# Altium footprint library PcbLib_Arduino_nano.PcbLib: 19 footprints (part 1 of 2)
Each footprint in its own frame and in the unit in brackets; x right, y up, seen from the top. Pads: shape width x height; smd on the part's side, far side on the other; paste and mask are expansions set on the pad; w line width, h text height; cw(c..) or ccw(c..) is an arc to the next point about the centre after c.
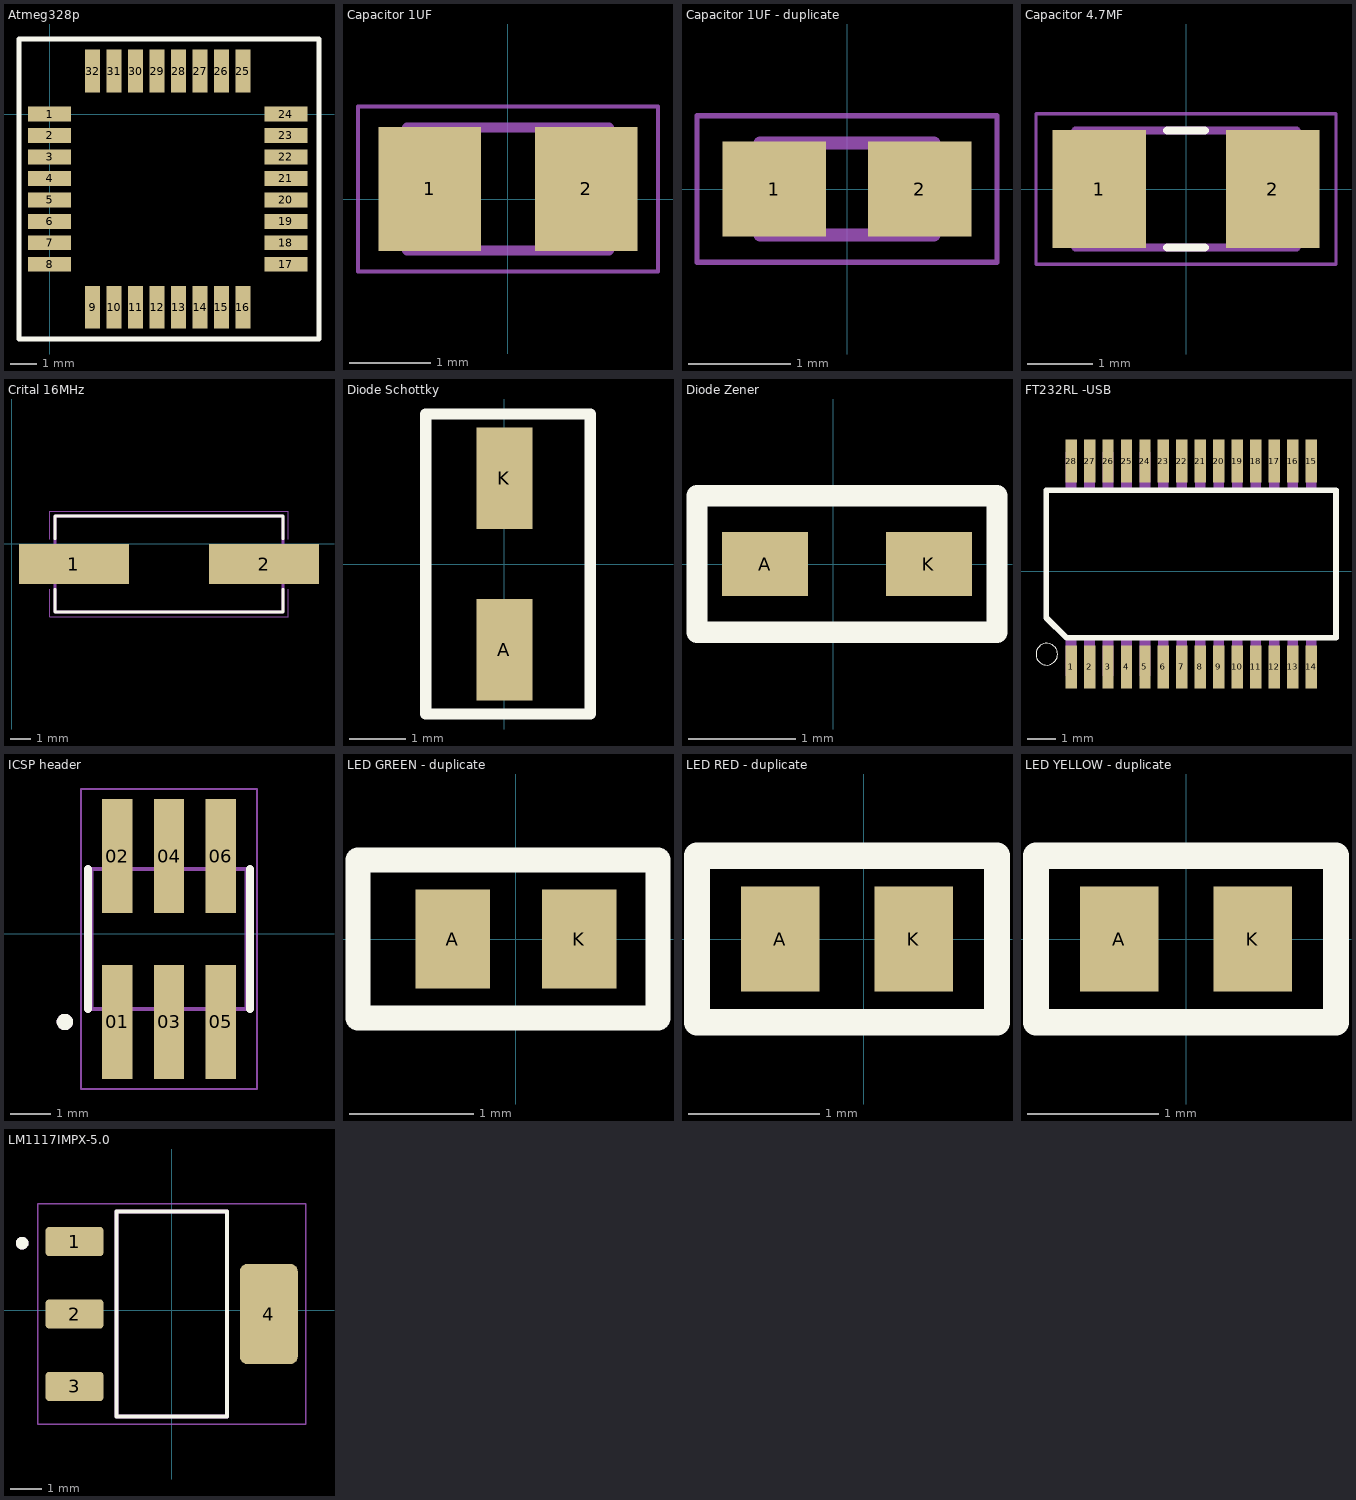
[diagram p0: the footprints below, top view; thin cyan lines are the x and y axes]

## Atmeg328p [mm]
pads (32):
  rect 1.6x0.55 smd: 1(0,0) 2(0,-0.8) 3(0,-1.6) 4(0,-2.4) 5(0,-3.2) 6(0,-4) 7(0,-4.8) 8(0,-5.6) 17(8.8,-5.6) 18(8.8,-4.8) 19(8.8,-4) 20(8.8,-3.2) 21(8.8,-2.4) 22(8.8,-1.6) 23(8.8,-0.8) 24(8.8,0)
  rect 0.55x1.6 smd: 9(1.6,-7.2) 10(2.4,-7.2) 11(3.2,-7.2) 12(4,-7.2) 13(4.8,-7.2) 14(5.6,-7.2) 15(6.4,-7.2) 16(7.2,-7.2) 25(7.2,1.6) 26(6.4,1.6) 27(5.6,1.6) 28(4.8,1.6) 29(4,1.6) 30(3.2,1.6) 31(2.4,1.6) 32(1.6,1.6)
Top Overlay:
  lines w0.2: -1.143,-8.382 10.033,-8.382 10.033,2.794 -1.143,2.794 -1.143,-8.382
3D body "ATmega_AP214.STEP": height 1, standoff -0.1, extent -0.053,-7.292 8.943,1.704

## Capacitor 1UF [mm]
pads (2):
  rect 1.25x1.51 smd: 1(-0.955,0.127) 2(0.955,0.127)
Mechanical 13:
  lines w0.127: -1.23,-0.623 -1.23,0.877 1.23,0.877 1.23,-0.623 -1.23,-0.623
Mechanical 15:
  lines w0.05: -1.83,-0.88 -1.83,1.134 1.83,1.134 1.83,-0.88 -1.83,-0.88
3D body "CGA4J2X7R1H104K125AE.STEP": height 1.26, standoff 0.01, extent -0.873,-0.635 1.127,0.865

## Capacitor 1UF - duplicate [mm]
pads (2):
  rect 1.01x0.93 smd: 1(-0.709,0) 2(0.709,0)
Mechanical 13:
  lines w0.127: -0.85,-0.45 -0.85,0.45 0.85,0.45 0.85,-0.45 -0.85,-0.45
Mechanical 15:
  lines w0.05: -1.465,-0.715 -1.465,0.715 1.465,0.715 1.465,-0.715 -1.465,-0.715
3D body "CGA3E1X8L1C105K080AC.STEP": height 0.81, standoff 0.01, extent -0.8,-0.381 0.8,0.519

## Capacitor 4.7MF [mm]
pads (2):
  rect 1.44x1.82 smd: 1(-1.336,0) 2(1.336,0)
Top Overlay:
  lines w0.127: -0.29,-0.9 0.29,-0.9 ; -0.29,0.9 0.29,0.9
Mechanical 13:
  lines w0.127: -1.7,-0.9 -1.7,0.9 1.7,0.9 1.7,-0.9 -1.7,-0.9
Mechanical 15:
  lines w0.05: -2.308,-1.158 -2.308,1.158 2.308,1.158 2.308,-1.158 -2.308,-1.158
3D body "step_temp.STEP": height 1.8, standoff 0, extent -1.6,-0.8 1.6,0.8

## Crital 16MHz [mm]
pads (2):
  rect 5.5x2 smd: 1(3.124,-1.016) 2(12.624,-1.016)
Top Overlay:
  lines w0.127: 2.174,-2.27 2.174,-3.416 13.574,-3.416 13.574,-2.27 ; 2.174,0.238 2.174,1.384 13.574,1.384 13.574,0.238
Mechanical 13:
  lines w0.127: 2.174,-3.416 13.574,-3.416 13.574,1.384 2.174,1.384 2.174,-3.416
Mechanical 15:
  lines w0.05: 1.924,-2.266 1.924,-3.666 13.824,-3.666 13.824,-2.266 ; 1.924,0.234 1.924,1.634 13.824,1.634 13.824,0.234
3D body "ECS-160-18-5PX-CKM-TR.STEP": height 4.31, standoff 0.01, extent 1.401,-3.533 14.601,1.267

## Diode Schottky [mm]
pads (2):
  rect 1x1.8 smd: A(0,-1.524) K(0,1.524)
Top Overlay:
  lines w0.2: -1.397,-2.667 1.524,-2.667 1.524,2.667 -1.397,2.667 -1.397,1.403 -1.397,-2.667
3D body "SS14.STEP": height 2.17, standoff 0.01, extent -1.23,-2.4 1.27,2.4

## Diode Zener [mm]
pads (2):
  rect 0.8x0.6 smd: A(-0.635,0) K(0.889,0)
Top Overlay:
  lines w0.2: -1.27,-0.635 -1.27,0.635 1.524,0.635 1.524,-0.635 -1.27,-0.635
3D body "BZX585-B5V1,135.STEP": height 0.66, standoff 0.01, extent -0.673,-0.381 0.927,0.419

## FT232RL -USB [mm]
pads (28):
  rect 0.4x1.5 smd: 1(13.936,-3.371) 2(14.586,-3.371) 3(15.236,-3.371) 4(15.886,-3.371) 5(16.536,-3.371) 6(17.186,-3.371) 7(17.836,-3.371) 8(18.486,-3.371) 9(19.136,-3.371) 10(19.786,-3.371) 11(20.436,-3.371) 12(21.086,-3.371) 13(21.736,-3.371) 14(22.386,-3.371) 15(22.386,3.879) 16(21.736,3.879) 17(21.086,3.879) 18(20.436,3.879) 19(19.786,3.879) 20(19.136,3.879) 21(18.486,3.879) 22(17.836,3.879) 23(17.186,3.879) 24(16.536,3.879) 25(15.886,3.879) 26(15.236,3.879) 27(14.586,3.879) 28(13.936,3.879)
Top Overlay:
  circle w0: c13.081,-2.921 r0.381
  lines w0.203: 13.061,-1.636 13.771,-2.346 23.261,-2.346 23.261,2.854 13.061,2.854 13.061,-1.636
Mechanical 13:
  region: 14.114,2.898 13.755,2.898 13.755,4.191 14.114,4.191
  region: 14.764,2.897 14.406,2.897 14.406,4.191 14.764,4.191
  region: 15.414,2.9 15.053,2.9 15.053,4.191 15.414,4.191
  region: 16.064,2.898 15.706,2.898 15.706,4.191 16.064,4.191
  region: 16.714,2.9 16.355,2.9 16.355,4.191 16.714,4.191
  region: 17.364,2.9 17.006,2.9 17.006,4.191 17.364,4.191
  region: 18.014,2.898 17.658,2.898 17.658,4.191 18.014,4.191
  region: 18.664,2.898 18.308,2.898 18.308,4.191 18.664,4.191
  region: 19.314,2.897 18.959,2.897 18.959,4.191 19.314,4.191
  region: 19.964,2.899 19.61,2.899 19.61,4.191 19.964,4.191
  region: 20.614,2.899 20.261,2.899 20.261,4.191 20.614,4.191
  region: 21.264,2.901 20.914,2.901 20.914,4.191 21.264,4.191
  region: 21.914,2.9 21.565,2.9 21.565,4.191 21.914,4.191
  region: 22.564,2.898 22.212,2.898 22.212,4.191 22.564,4.191
  region: 22.564,-3.685 22.211,-3.685 22.211,-2.388 22.564,-2.388
  region: 21.914,-3.688 21.562,-3.688 21.562,-2.388 21.914,-2.388
  region: 21.264,-3.683 20.908,-3.683 20.908,-2.388 21.264,-2.388
  region: 20.614,-3.686 20.26,-3.686 20.26,-2.388 20.614,-2.388
  region: 19.964,-3.687 19.61,-3.687 19.61,-2.388 19.964,-2.388
  region: 19.314,-3.686 18.959,-3.686 18.959,-2.388 19.314,-2.388
  region: 18.664,-3.683 18.308,-3.683 18.308,-2.388 18.664,-2.388
  region: 18.014,-3.691 17.657,-3.691 17.657,-2.388 18.014,-2.388
  region: 17.364,-3.689 17.006,-3.689 17.006,-2.388 17.364,-2.388
  region: 16.714,-3.685 16.357,-3.685 16.357,-2.388 16.714,-2.388
  region: 16.064,-3.689 15.705,-3.689 15.705,-2.388 16.064,-2.388
  region: 15.414,-3.685 15.057,-3.685 15.057,-2.388 15.414,-2.388
  region: 14.764,-3.691 14.401,-3.691 14.401,-2.388 14.764,-2.388
  region: 14.114,-3.685 13.756,-3.685 13.756,-2.388 14.114,-2.388
3D body "FT232RL--3DModel-STEP-56544.STEP": height 2, standoff 0, extent 13.061,-3.773 23.261,4.027

## Header 15 pin [mm]
3D body "zl305-15s_p2-54_l38-6_w2-5_h5.stp": height 1.25, standoff -1.25, extent -3.428,-19.3 4.572,19.3

## Header 15 pin - duplicate [mm]

## Header 15 pin - duplicate1 [mm]
3D body "zl305-15s_p2-54_l38-6_w2-5_h5.stp": height 1.25, standoff -1.25, extent -5,-19.3 3,19.3

## ICSP header [mm]
pads (6):
  rect 0.74x2.79 smd: 01(18.288,-2.162) 02(18.288,1.908) 03(19.558,-2.162) 04(19.558,1.908) 05(20.828,-2.162) 06(20.828,1.908)
Top Overlay:
  circle w0.2: c17.003,-2.162 r0.1
  lines w0.2: 17.568,-1.842 17.568,1.588 ; 21.548,-1.842 21.548,1.588
Mechanical 13:
  circle w0.2: c17.003,-2.162 r0.1
  lines w0.1: 17.653,-1.842 17.653,1.588 ; 17.653,-1.842 21.463,-1.842 ; 17.653,-1.842 17.653,1.588 ; 17.653,1.588 21.463,1.588 ; 17.653,1.588 21.463,1.588 ; 21.463,-1.842 21.463,1.588 ; 21.463,-1.842 21.463,1.588
Mechanical 15:
  lines w0.05: 17.403,-3.807 17.403,3.553 21.713,3.553 21.713,-3.807 17.403,-3.807
3D body "FTSH-103-05-F-DV-TR.stp": height 7.25, standoff 0.01, extent 17.653,-3.048 21.463,2.794

## LED GREEN - duplicate [mm]
pads (2):
  rect 0.6x0.8 smd: A(-0.508,0) K(0.508,0)
Top Overlay:
  lines w0.2: -1.27,-0.635 -1.27,0.635 1.143,0.635 1.143,-0.635 -1.27,-0.635
3D body "LED Green SMD 0603 Würth 150060BS55040.stp": height 0.4, standoff 0, extent -0.8,-0.4 0.8,0.4

## LED RED - duplicate [mm]
pads (2):
  rect 0.6x0.8 smd: A(-0.635,0) K(0.381,0)
Top Overlay:
  lines w0.2: -1.27,-0.635 -1.27,0.635 1.016,0.635 1.016,-0.635 -1.27,-0.635
3D body "LED Red SMD 0603 Würth 150060SS55040.stp": height 0.4, standoff 0, extent -0.927,-0.4 0.673,0.4

## LED YELLOW - duplicate [mm]
pads (2):
  rect 0.6x0.8 smd: A(-0.508,0) K(0.508,0)
Top Overlay:
  lines w0.2: -1.143,-0.635 -1.143,0.635 1.143,0.635 1.143,-0.635 -1.143,-0.635
3D body "LED Yellow SMD 0603 Würth 150060YS55040.stp": height 0.4, standoff 0, extent -0.8,-0.4 0.8,0.4

## LM1117IMPX-5.0 [mm]
pads (4):
  rrect25% 1.84x0.93 smd: 1(-3.085,2.173) 2(-3.085,-0.127) 3(-3.085,-2.427)
  rrect25% 1.84x3.19 smd: 4(3.085,-0.127)
Top Overlay:
  circle w0.2: c-4.75,2.123 r0.1
  lines w0.127: -1.75,-3.377 -1.75,3.123 1.75,3.123 1.75,-3.377 -1.75,-3.377
Mechanical 13:
  circle w0.2: c-4.75,2.123 r0.1
  lines w0.127: -1.75,-3.377 -1.75,3.123 1.75,3.123 1.75,-3.377 -1.75,-3.377
Mechanical 15:
  lines w0.05: -4.255,-3.627 4.255,-3.627 4.255,3.373 -4.255,3.373 -4.255,-3.627
3D body "LM1117IMPX-5.0.STEP": height 1.51, standoff -0.29, extent -3.626,-3.377 3.372,3.123